# Altium schematic symbol library LM317.SchLib: 1 symbol
Pins are listed as number, name and electrical type; pins without a type are passive.

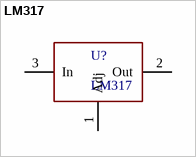
[diagram p0: symbol LM317]

## LM317
designator U?
footprint D2PAK (D2-PAK, 3-Pads, Body 7,10x8,56mm (max), IPC Medium Density)
footprint TO-220V
pins: 1 Adj, 2 Out, 3 In